# EAGLE library part T3 (library 0_inductor)
Neofocal specific 4 winding Toroid (hand wound) DNOrder
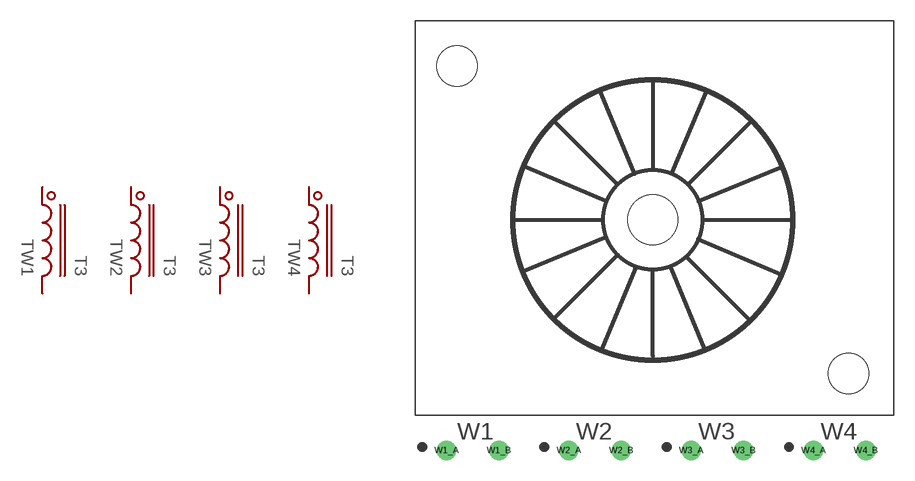
[diagram p2: symbol with the pads of 4WINDING; footprint 4WINDING]

Designator prefix T; gates W1=L W2=L W3=L W4=L

## T3 (DIGIKEY: DNS)  [4WINDING]
W1_A  W1:1  pas
W1_B  W1:2  pas
W2_A  W2:1  pas
W2_B  W2:2  pas
W3_A  W3:1  pas
W3_B  W3:2  pas
W4_A  W4:1  pas
W4_B  W4:2  pas

## Footprint 4WINDING (pad centres in mm)
drill 0.889: W1_A -14.986,-16.764; W1_B -11.176,-16.764; W2_A -6.096,-16.764; W2_B -2.286,-16.764; W3_A 2.794,-16.764; W3_B 6.604,-16.764; W4_A 11.684,-16.764; W4_B 15.494,-16.764
hole 3.658 at 0,0
hole 2.946 at -14.224,11.176
hole 2.946 at 14.224,-11.176